# Altium footprint library 64128M_LCD.PcbLib: 6 footprints
Each footprint in its own frame and in the unit in brackets; x right, y up, seen from the top. Pads: shape width x height; smd on the part's side, far side on the other; paste and mask are expansions set on the pad; w line width, h text height; cw(c..) or ccw(c..) is an arc to the next point about the centre after c.
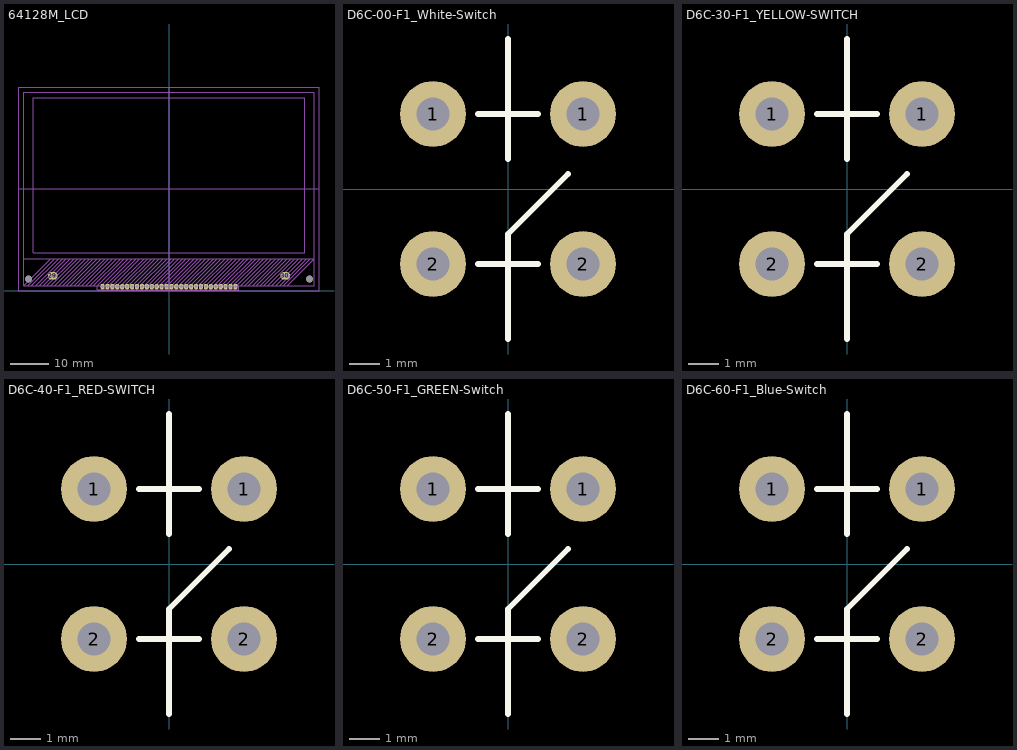
[diagram p0: the footprints below, top view; thin cyan lines are the x and y axes]

## 64128M_LCD [mm]
pads (30):
  oval 1.1x1.5 hole 0.8 paste+0 mask+0: 1(17.14,1) 2(15.87,1)
  oval 1.1x1.5 hole 0.8 mask+0: 3(14.6,1) 4(13.33,1) 5(12.06,1) 6(10.79,1) 7(9.52,1) 8(8.25,1) 9(6.98,1) 10(5.71,1) 11(4.44,1) 12(3.17,1) 13(1.9,1) 14(0.63,1) 15(-0.64,1) 16(-1.91,1) 17(-3.18,1) 18(-4.45,1) 19(-5.72,1) 20(-6.99,1) 21(-8.26,1) 22(-9.53,1) 23(-10.8,1) 24(-12.07,1) 25(-13.34,1) 26(-14.61,1) 27(-15.88,1) 28(-17.15,1)
  oval 2.5x2 hole 0.8 slot 2.1 at 0 deg mask+0: 29(-30,3.79) 30(30,3.79)
via -36.2,3 diameter 1.8 hole 1.8
via 36.2,3 diameter 1.8 hole 1.8
Mechanical 1:
  lines w0.2: -38.7,26.2 0,26.2 38.7,26.2 ; -37.5,8.2 37.5,8.2 30.5,1.2 ; -36.5,1.2 -29.5,8.2 ; -35.5,1.2 -28.5,8.2 ; -34.437,1.23 -27.437,8.23 ; -33.5,1.2 -26.5,8.2 ; -32.5,1.2 -25.5,8.2 ; -31.5,1.2 -24.5,8.2 ; -30.5,1.2 -23.5,8.2 ; -30.5,8.2 -37.5,1.2 ; -29.5,1.2 -22.5,8.2 ; -28.5,1.2 -21.5,8.2 ; -27.437,1.23 -20.437,8.23 ; -26.5,1.2 -19.5,8.2 ; -25.5,1.2 -18.5,8.2 ; -24.5,1.2 -17.5,8.2 ; -23.5,1.2 -16.5,8.2 ; -22.5,1.2 -15.5,8.2 ; -21.5,1.2 -14.5,8.2 ; -20.437,1.23 -13.437,8.23 ; -19.5,1.2 -12.5,8.2 ; -17.5,1.2 -10.5,8.2 ; -16.5,1.2 -9.5,8.2 ; -15.5,1.2 -8.5,8.2 ; -14.5,1.2 -7.5,8.2 ; -13.437,1.23 -6.437,8.23 ; -12.5,1.2 -5.5,8.2 ; -11.5,1.2 -4.5,8.2 ; -11.5,8.2 -18.5,1.2 -18.5,0.2 18,0.2 18,1.2 ; -10.5,1.2 -3.5,8.2 ; -9.5,1.2 -2.5,8.2 ; -8.5,1.2 -1.5,8.2 ; -7.5,1.2 -0.5,8.2 ; -6.437,1.23 0.563,8.23 ; -5.5,1.2 1.5,8.2 ; -4.5,1.2 2.5,8.2 ; -3.5,1.2 3.5,8.2 ; -2.5,1.2 4.5,8.2 ; -1.5,1.2 5.5,8.2 ; -0.5,1.2 6.5,8.2 ; 0,0 0,52.4 ; 0.563,1.23 7.563,8.23 ; 1.5,1.2 8.5,8.2 ; 2.5,1.2 9.5,8.2 ; 3.5,1.2 10.5,8.2 ; 4.5,1.2 11.5,8.2 ; 5.5,1.2 12.5,8.2 ; 6.5,1.2 13.5,8.2 ; 7.563,1.23 14.563,8.23 ; 8.5,1.2 15.5,8.2 ; 9.5,1.2 16.5,8.2 ; 10.5,1.2 17.5,8.2 ; 11.5,1.2 18.5,8.2 ; 12.5,1.2 19.5,8.2 ; 13.5,1.2 20.5,8.2 ; 14.563,1.23 21.563,8.23 ; 15.5,1.2 22.5,8.2 ; 16.5,1.2 23.5,8.2 ; 17.5,1.2 24.5,8.2 ; 18.5,1.2 25.5,8.2 ; 19.5,1.2 26.5,8.2 ; 20.5,1.2 27.5,8.2 ; 21.563,1.23 28.563,8.23 ; 22.5,1.2 29.5,8.2 ; 23.5,1.2 30.5,8.2 ; 24.5,1.2 31.5,8.2 ; 25.5,1.2 32.5,8.2 ; 26.5,1.2 33.5,8.2 ; 27.5,1.2 34.5,8.2 ; 28.563,1.23 35.563,8.23 ; 29.5,1.2 36.5,8.2 ; -37.5,1.2 37.5,1.2 37.5,51.2 -37.5,51.2 -37.5,1.2 ; -38.7,0 -38.7,52.4 38.7,52.4 38.7,0 -38.7,0 ; -35,9.7 -35,49.7 35,49.7 35,9.7 -35,9.7
  text "SILICONE" at -37.602,8.11 h1.2
  text "DISPLAY AREA" at -36.069,49.569 h1.2
  text "FRAME BORDER" at -35.641,50.906 h1.2
  text "OUTLINE" at -34.92,52.543 h1.2
  text "PINS" at -22.368,-1.585 h1.2
3D body: height 6.5, standoff -4.5, extent 16.94,0.85 17.34,1.15
3D body: height 6.8, standoff 6.4, extent 16.79,0.85 17.49,2.6
3D body: height 6.5, standoff 4, extent 16.79,0.85 17.49,1.15
3D body: height 6.5, standoff -4.5, extent 15.67,0.85 16.07,1.15
3D body: height 6.8, standoff 6.4, extent 15.52,0.85 16.22,2.6
3D body: height 6.5, standoff 4, extent 15.52,0.85 16.22,1.15
3D body: height 6.5, standoff -4.5, extent 14.4,0.85 14.8,1.15
3D body: height 6.8, standoff 6.4, extent 14.25,0.85 14.95,2.6
3D body: height 6.5, standoff 4, extent 14.25,0.85 14.95,1.15
3D body: height 6.5, standoff -4.5, extent 13.13,0.85 13.53,1.15
3D body: height 6.8, standoff 6.4, extent 12.98,0.85 13.68,2.6
3D body: height 6.5, standoff 4, extent 12.98,0.85 13.68,1.15
3D body: height 6.5, standoff -4.5, extent 11.86,0.85 12.26,1.15
3D body: height 6.8, standoff 6.4, extent 11.71,0.85 12.41,2.6
3D body: height 6.5, standoff 4, extent 11.71,0.85 12.41,1.15
3D body: height 6.5, standoff -4.5, extent 10.59,0.85 10.99,1.15
3D body: height 6.8, standoff 6.4, extent 10.44,0.85 11.14,2.6
3D body: height 6.5, standoff 4, extent 10.44,0.85 11.14,1.15
3D body: height 6.5, standoff -4.5, extent 9.32,0.85 9.72,1.15
3D body: height 6.8, standoff 6.4, extent 9.17,0.85 9.87,2.6
3D body: height 6.5, standoff 4, extent 9.17,0.85 9.87,1.15
3D body: height 6.5, standoff -4.5, extent 8.05,0.85 8.45,1.15
3D body: height 6.8, standoff 6.4, extent 7.9,0.85 8.6,2.6
3D body: height 6.5, standoff 4, extent 7.9,0.85 8.6,1.15
3D body: height 6.5, standoff -4.5, extent 6.78,0.85 7.18,1.15
3D body: height 6.8, standoff 6.4, extent 6.63,0.85 7.33,2.6
3D body: height 6.5, standoff 4, extent 6.63,0.85 7.33,1.15
3D body: height 6.5, standoff -4.5, extent 5.51,0.85 5.91,1.15
3D body: height 6.8, standoff 6.4, extent 5.36,0.85 6.06,2.6
3D body: height 6.5, standoff 4, extent 5.36,0.85 6.06,1.15
3D body: height 6.5, standoff -4.5, extent 4.24,0.85 4.64,1.15
3D body: height 6.8, standoff 6.4, extent 4.09,0.85 4.79,2.6
3D body: height 6.5, standoff 4, extent 4.09,0.85 4.79,1.15
3D body: height 6.5, standoff -4.5, extent 2.97,0.85 3.37,1.15
3D body: height 6.8, standoff 6.4, extent 2.82,0.85 3.52,2.6
3D body: height 6.5, standoff 4, extent 2.82,0.85 3.52,1.15
3D body: height 6.5, standoff -4.5, extent 1.7,0.85 2.1,1.15
3D body: height 6.8, standoff 6.4, extent 1.55,0.85 2.25,2.6
3D body: height 6.5, standoff 4, extent 1.55,0.85 2.25,1.15
3D body: height 6.5, standoff -4.5, extent 0.43,0.85 0.83,1.15
3D body: height 6.8, standoff 6.4, extent 0.28,0.85 0.98,2.6
3D body: height 6.5, standoff 4, extent 0.28,0.85 0.98,1.15
3D body: height 6.5, standoff -4.5, extent -0.84,0.85 -0.44,1.15
3D body: height 6.8, standoff 6.4, extent -0.99,0.85 -0.29,2.6
3D body: height 6.5, standoff 4, extent -0.99,0.85 -0.29,1.15
3D body: height 6.5, standoff -4.5, extent -2.11,0.85 -1.71,1.15
3D body: height 6.8, standoff 6.4, extent -2.26,0.85 -1.56,2.6
3D body: height 6.5, standoff 4, extent -2.26,0.85 -1.56,1.15
3D body: height 6.5, standoff -4.5, extent -3.38,0.85 -2.98,1.15
3D body: height 6.8, standoff 6.4, extent -3.53,0.85 -2.83,2.6
3D body: height 6.5, standoff 4, extent -3.53,0.85 -2.83,1.15
3D body: height 6.5, standoff -4.5, extent -4.65,0.85 -4.25,1.15
3D body: height 6.8, standoff 6.4, extent -4.8,0.85 -4.1,2.6
3D body: height 6.5, standoff 4, extent -4.8,0.85 -4.1,1.15
3D body: height 6.5, standoff -4.5, extent -5.92,0.85 -5.52,1.15
3D body: height 6.8, standoff 6.4, extent -6.07,0.85 -5.37,2.6
3D body: height 6.5, standoff 4, extent -6.07,0.85 -5.37,1.15
3D body: height 6.5, standoff -4.5, extent -7.19,0.85 -6.79,1.15
3D body: height 6.8, standoff 6.4, extent -7.34,0.85 -6.64,2.6
3D body: height 6.5, standoff 4, extent -7.34,0.85 -6.64,1.15
3D body: height 6.5, standoff -4.5, extent -8.46,0.85 -8.06,1.15
3D body: height 6.8, standoff 6.4, extent -8.61,0.85 -7.91,2.6
3D body: height 6.5, standoff 4, extent -8.61,0.85 -7.91,1.15
3D body: height 6.5, standoff -4.5, extent -9.73,0.85 -9.33,1.15
3D body: height 6.8, standoff 6.4, extent -9.88,0.85 -9.18,2.6
3D body: height 6.5, standoff 4, extent -9.88,0.85 -9.18,1.15
3D body: height 6.5, standoff -4.5, extent -11,0.85 -10.6,1.15
3D body: height 6.8, standoff 6.4, extent -11.15,0.85 -10.45,2.6
3D body: height 6.5, standoff 4, extent -11.15,0.85 -10.45,1.15
3D body: height 6.5, standoff -4.5, extent -12.27,0.85 -11.87,1.15
3D body: height 6.8, standoff 6.4, extent -12.42,0.85 -11.72,2.6
3D body: height 6.5, standoff 4, extent -12.42,0.85 -11.72,1.15
3D body: height 6.5, standoff -4.5, extent -13.54,0.85 -13.14,1.15
3D body: height 6.8, standoff 6.4, extent -13.69,0.85 -12.99,2.6
3D body: height 6.5, standoff 4, extent -13.69,0.85 -12.99,1.15
3D body: height 6.5, standoff -4.5, extent -14.81,0.85 -14.41,1.15
3D body: height 6.8, standoff 6.4, extent -14.96,0.85 -14.26,2.6
3D body: height 6.5, standoff 4, extent -14.96,0.85 -14.26,1.15
3D body: height 6.5, standoff -4.5, extent -16.08,0.85 -15.68,1.15
3D body: height 6.8, standoff 6.4, extent -16.23,0.85 -15.53,2.6
3D body: height 6.5, standoff 4, extent -16.23,0.85 -15.53,1.15
3D body: height 6.5, standoff -4.5, extent -17.35,0.85 -16.95,1.15
3D body: height 6.8, standoff 6.4, extent -17.5,0.85 -16.8,2.6
3D body: height 0.25, standoff 0, extent -38.7,0 -37.5,0
3D body: height 6.5, standoff 0.1, extent -38.7,0 -37.5,52.4
3D body: height 6.5, standoff 0.1, extent 37.5,0 38.7,52.4
3D body: height 6.5, standoff 0.1, extent -38.7,0 -32.7,1.2
3D body: height 6.5, standoff 0.1, extent 32.7,0 38.7,1.2
3D body: height 6.5, standoff 0.1, extent -38.7,51.199 38.7,52.4
3D body: height 6.4, standoff 0.1, extent -37.5,8.2 37.5,51.2
3D body: height 6.4, standoff 0.1, extent -37.5,1.2 37.5,8.2
3D body: height 6.5, standoff 4, extent -17.5,0.85 -16.8,1.15

## D6C-00-F1_White-Switch [mm]
pads (4):
  round 2.2 hole 1.1 mask+0: 1(-2.5,2.5) 1(2.5,2.5) 2(-2.5,-2.5) 2(2.5,-2.5)
Top Overlay:
  lines w0.2: -1,2.5 1,2.5 ; 0,-5 0,-2.5 ; 0,1 0,2.5 0,5 ; 1,-2.5 -1,-2.5 0,-2.5 ; 2,0.5 0,-1.5 0,-2.5
3D body "D6C60F2LFS.stp": height 11.47, standoff -3.33, extent -5.4,-6 6,6

## D6C-30-F1_YELLOW-SWITCH [mm]
pads (4):
  round 2.2 hole 1.1 mask+0: 1(-2.5,2.5) 1(2.5,2.5) 2(-2.5,-2.5) 2(2.5,-2.5)
Top Overlay:
  lines w0.2: -1,2.5 1,2.5 ; 0,-5 0,-2.5 ; 0,1 0,2.5 0,5 ; 1,-2.5 -1,-2.5 0,-2.5 ; 2,0.5 0,-1.5 0,-2.5
3D body "D6C60F2LFS.stp": height 11.47, standoff -3.33, extent -5.4,-6 6,6

## D6C-40-F1_RED-SWITCH [mm]
pads (4):
  round 2.2 hole 1.1 mask+0: 1(-2.5,2.5) 1(2.5,2.5) 2(-2.5,-2.5) 2(2.5,-2.5)
Top Overlay:
  lines w0.2: -1,2.5 1,2.5 ; 0,-5 0,-2.5 ; 0,1 0,2.5 0,5 ; 1,-2.5 -1,-2.5 0,-2.5 ; 2,0.5 0,-1.5 0,-2.5
3D body "D6C60F2LFS.stp": height 11.47, standoff -3.33, extent -5.4,-6 6,6

## D6C-50-F1_GREEN-Switch [mm]
pads (4):
  round 2.2 hole 1.1 mask+0: 1(-2.5,2.5) 1(2.5,2.5) 2(-2.5,-2.5) 2(2.5,-2.5)
Top Overlay:
  lines w0.2: -1,2.5 1,2.5 ; 0,-5 0,-2.5 ; 0,1 0,2.5 0,5 ; 1,-2.5 -1,-2.5 0,-2.5 ; 2,0.5 0,-1.5 0,-2.5
3D body "D6C60F2LFS.stp": height 11.47, standoff -3.33, extent -5.4,-6 6,6

## D6C-60-F1_Blue-Switch [mm]
pads (4):
  round 2.2 hole 1.1 mask+0: 1(-2.5,2.5) 1(2.5,2.5) 2(-2.5,-2.5) 2(2.5,-2.5)
Top Overlay:
  lines w0.2: -1,2.5 1,2.5 ; 0,-5 0,-2.5 ; 0,1 0,2.5 0,5 ; 1,-2.5 -1,-2.5 0,-2.5 ; 2,0.5 0,-1.5 0,-2.5
3D body "D6C60F2LFS.stp": height 11.47, standoff -3.33, extent -5.4,-6 6,6